# Altium schematic symbol library UAVX.SchLib: 1 symbol
Pins are listed as number, name and electrical type; pins without a type are passive.

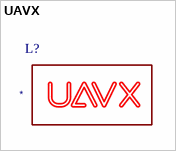
[diagram p0: symbol UAVX]

## UAVX
designator L?
footprint UAVX